# Altium schematic symbol library ESC_altimeter_v01.SchLib: 5 symbols
Pins are listed as number, name and electrical type; pins without a type are passive.

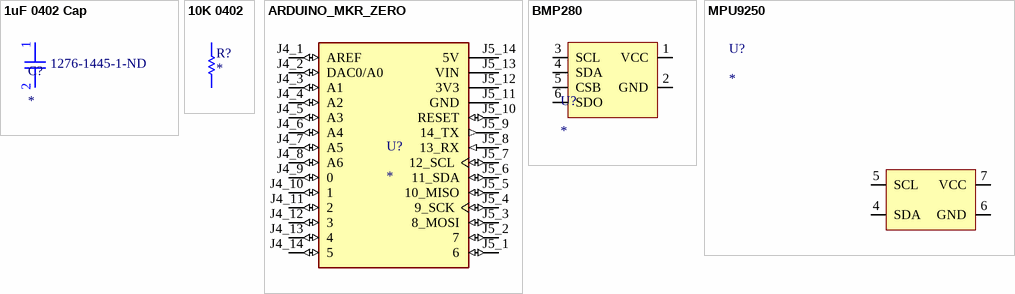
[diagram p0: symbols 1uF 0402 Cap to MPU9250]

## 1uF 0402 Cap
designator C?  Supplier Part Number 1: 1276-1445-1-ND
C52923; ComponentLink1Description: New link; ComponentLink1URL: *; Supplier 1: Digi-Key
footprint 0402 Cap
pins: 1, 2

## 10K 0402
designator R?
Supplier 2: Farnell; Supplier Part Number 1: MCS0402-10.0K-CFCT-ND; Supplier Part Number 2: 2614406; Supplier 1: Digi-Key
footprint 0402 Res
pins: 1, 2

## ARDUINO_MKR_ZERO
designator U?
ATSAMD21 Arduino MKR Zero with Headers SAM D ARMÂ® CortexÂ®-M0+ MCU 32-Bit Embedded Evaluation Board; Availability: Unavailable; Check_prices: https://www.snapeda.com/parts/ARDUINO%20MKR%20ZERO/Arduino/view-part/2709581/?ref=eda; SnapEDA_Link: https://www.snapeda.com/parts/ARDUINO%20MKR%20ZERO/Arduino/view-part/2709581/?ref=snap; MF: Arduino; Value: *; Price: None; Package: None; MP: ARDUINO MKR ZERO
footprint MODULE_ARDUINO_MKR_ZERO
pins: J4_1 AREF (io), J4_2 DAC0/A0 (io), J4_3 A1 (io), J4_4 A2 (io), J4_5 A3 (io), J4_6 A4 (io), J4_7 A5 (io), J4_8 A6 (io), J4_9 0 (io), J4_10 1 (io), J4_11 2 (io), J4_12 3 (io), J4_13 4 (io), J4_14 5 (io), J5_1 6 (io), J5_2 7 (io), J5_3 8_MOSI (io), J5_4 9_SCK (io), J5_5 10_MISO (io), J5_6 11_SDA (io), J5_7 12_SCL (io), J5_8 13_RX (in), J5_9 14_TX (out), J5_10 RESET (io), J5_11 GND (power), J5_12 3V3 (power), J5_13 VIN (power), J5_14 5V (power)

## BMP280
designator U?
footprint BMP280
pins: 1 VCC, 2 GND, 3 SCL, 4 SDA, 5 CSB, 6 SDO

## MPU9250
designator U?
footprint MPU9250
pins: 4 SDA, 5 SCL, 6 GND, 7 VCC